# EAGLE library part PHOTON (library Particle-Devices)
Particle Photon Wi-Fi through-hole development board footprint
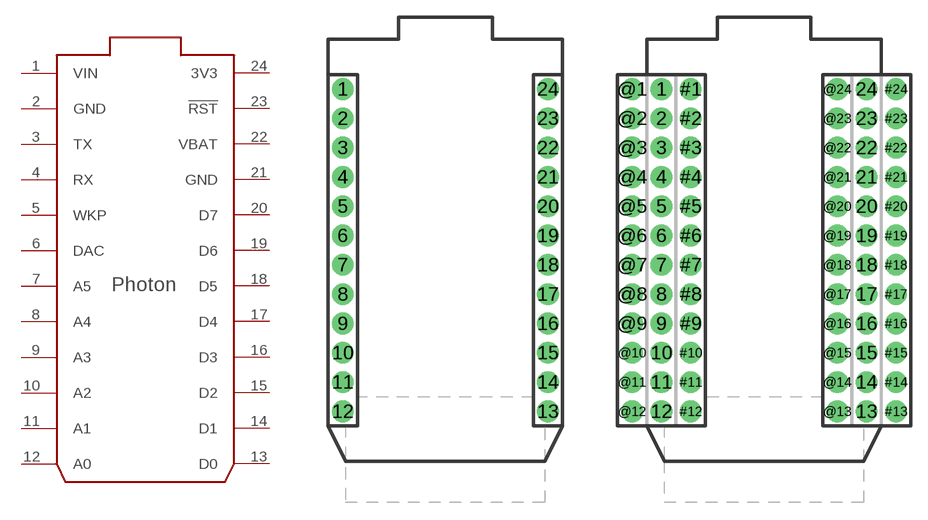
[diagram p2: symbol with the pads of PHOTON; footprints PHOTON, PHOTON_STACKABLE]

Designator prefix U

## PHOTON_WITH_HEADERS  [PHOTON]
1  VIN  pwr
2  GND  pwr
3  TX
4  RX
5  WKP
6  DAC
7  A5
8  A4
9  A3
10  A2
11  A1
12  A0
13  D0
14  D1
15  D2
16  D3
17  D4
18  D5
19  D6
20  D7
21  GND  pwr
22  VBAT  pwr
23  !RST
24  3V3  pwr

## PHOTON_WITH_STACKABLE_HEADERS  [PHOTON_STACKABLE]
1  VIN  pwr
2  GND  pwr
3  TX
4  RX
5  WKP
6  DAC
7  A5
8  A4
9  A3
10  A2
11  A1
12  A0
13  D0
14  D1
15  D2
16  D3
17  D4
18  D5
19  D6
20  D7
21  GND  pwr
22  VBAT  pwr
23  !RST
24  3V3  pwr
#1  VIN  pwr
#2  GND  pwr
#3  TX
#4  RX
#5  WKP
#6  DAC
#7  A5
#8  A4
#9  A3
#10  A2
#11  A1
#12  A0
#13  D0
#14  D1
#15  D2
#16  D3
#17  D4
#18  D5
#19  D6
#20  D7
#21  GND  pwr
#22  VBAT  pwr
#23  !RST
#24  3V3  pwr
@1  VIN  pwr
@2  GND  pwr
@3  TX
@4  RX
@5  WKP
@6  DAC
@7  A5
@8  A4
@9  A3
@10  A2
@11  A1
@12  A0
@13  D0
@14  D1
@15  D2
@16  D3
@17  D4
@18  D5
@19  D6
@20  D7
@21  GND  pwr
@22  VBAT  pwr
@23  !RST
@24  3V3  pwr

## Footprint PHOTON (pad centres in mm)
drill 1.016 pad 1.88: 1 1.27,33.02; 2 1.27,30.48; 3 1.27,27.94; 4 1.27,25.4; 5 1.27,22.86; 6 1.27,20.32; 7 1.27,17.78; 8 1.27,15.24; 9 1.27,12.7; 10 1.27,10.16; 11 1.27,7.62; 12 1.27,5.08; 13 19.05,5.08; 14 19.05,7.62; 15 19.05,10.16; 16 19.05,12.7; 17 19.05,15.24; 18 19.05,17.78; 19 19.05,20.32; 20 19.05,22.86; 21 19.05,25.4; 22 19.05,27.94; 23 19.05,30.48; 24 19.05,33.02

## Footprint PHOTON_STACKABLE (pad centres in mm)
drill 1.016 pad 1.88: 1 1.27,33.02; 2 1.27,30.48; 3 1.27,27.94; 4 1.27,25.4; 5 1.27,22.86; 6 1.27,20.32; 7 1.27,17.78; 8 1.27,15.24; 9 1.27,12.7; 10 1.27,10.16; 11 1.27,7.62; 12 1.27,5.08; 13 19.05,5.08; 14 19.05,7.62; 15 19.05,10.16; 16 19.05,12.7; 17 19.05,15.24; 18 19.05,17.78; 19 19.05,20.32; 20 19.05,22.86; 21 19.05,25.4; 22 19.05,27.94; 23 19.05,30.48; 24 19.05,33.02; #1 3.81,33.02; #2 3.81,30.48; #3 3.81,27.94; #4 3.81,25.4; #5 3.81,22.86; #6 3.81,20.32; #7 3.81,17.78; #8 3.81,15.24; #9 3.81,12.7; #10 3.81,10.16; #11 3.81,7.62; #12 3.81,5.08; #13 21.59,5.08; #14 21.59,7.62; #15 21.59,10.16; #16 21.59,12.7; #17 21.59,15.24; #18 21.59,17.78; #19 21.59,20.32; #20 21.59,22.86; #21 21.59,25.4; #22 21.59,27.94; #23 21.59,30.48; #24 21.59,33.02; @1 -1.27,33.02; @2 -1.27,30.48; @3 -1.27,27.94; @4 -1.27,25.4; @5 -1.27,22.86; @6 -1.27,20.32; @7 -1.27,17.78; @8 -1.27,15.24; @9 -1.27,12.7; @10 -1.27,10.16; @11 -1.27,7.62; @12 -1.27,5.08; @13 16.51,5.08; @14 16.51,7.62; @15 16.51,10.16; @16 16.51,12.7; @17 16.51,15.24; @18 16.51,17.78; @19 16.51,20.32; @20 16.51,22.86; @21 16.51,25.4; @22 16.51,27.94; @23 16.51,30.48; @24 16.51,33.02